# Altium footprint library PCB_ActiveDIO.PcbLib: 6 footprints
Each footprint in its own frame and in the unit in brackets; x right, y up, seen from the top. Pads: shape width x height; smd on the part's side, far side on the other; paste and mask are expansions set on the pad; w line width, h text height; cw(c..) or ccw(c..) is an arc to the next point about the centre after c.
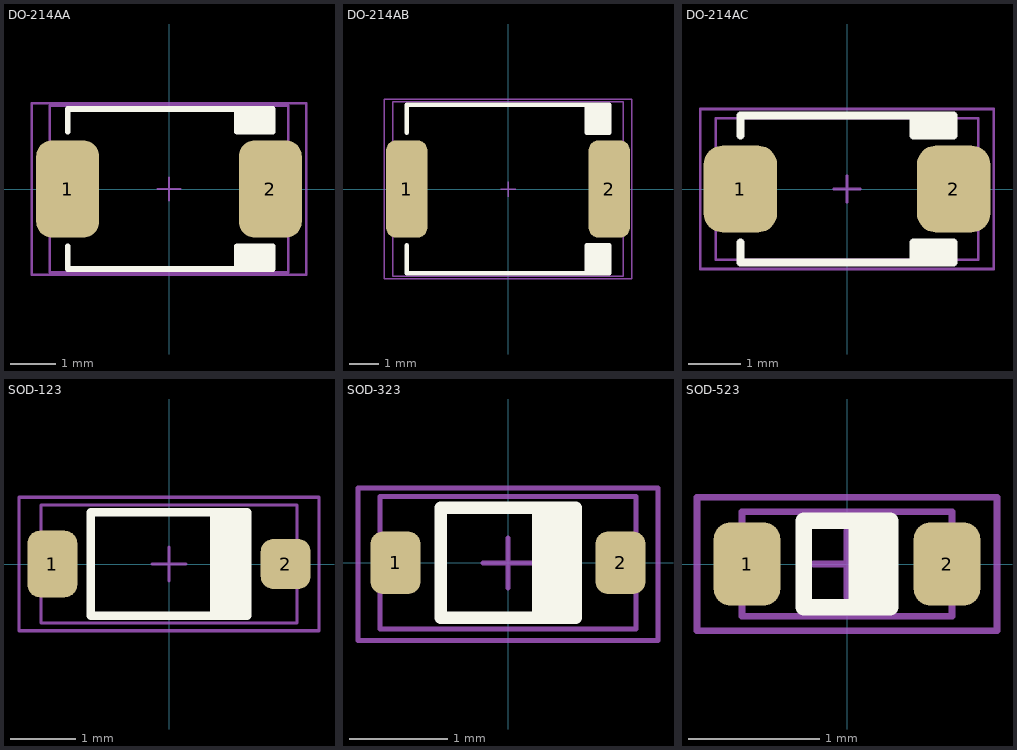
[diagram p0: the footprints below, top view; thin cyan lines are the x and y axes]

## DO-214AA [mil] "SMB"
height 104.33
pads (2):
  rrect50% 55x85 smd: 1(-88.58,0) 2(88.58,0)
Top Overlay:
  region: 59.5,50 59.5,70 90.58,70 90.58,50
  region: 59.5,-50 59.5,-70 90.58,-70 90.58,-50
  lines w5: -88.58,-50 -88.58,-70 90.58,-70 90.58,-50 59.5,-50 59.5,-70 ; -88.58,50 -88.58,70 90.58,70 90.58,50 59.5,50 59.5,70
Mechanical 13:
  lines w2: -10,0 10,0 ; 0,-10 0,10 ; -104.33,-72.84 -104.33,72.84 104.33,72.84 104.33,-72.84 -104.33,-72.84
T-Component:
  lines w2: -120,-75 120,-75 120,75 -120,75 -120,-75
  text ".Designator" at -43,-28 h100
3D body "User Library-DO-214AA_SMB.STEP": height 86.65, standoff -1.97, extent -104.33,-72.84 104.33,72.84

## DO-214AB [mil] "SMC"
height 98.43
pads (2):
  rrect50% 55x130 smd: 1(-135,0) 2(135,0)
Top Overlay:
  rectangle: 105,74.8 135,112.05
  rectangle: 105,-112.05 135,-74.8
  lines w6: -135,-75 -135,-112.05 135,-112.05 135,-74.8 105,-74.8 105,-112.05 ; -135,74.8 -135,112.05 135,112.05 135,74.8 105,74.8 105,112.05
Mechanical 13:
  lines w2: -10,0 10,0 ; 0,-10 0,10 ; -153.54,-116.14 -153.54,116.14 153.54,116.14 153.54,-116.14 -153.54,-116.14
T-Component:
  lines w2: -165,-120 165,-120 165,120 -165,120 -165,-120
  text ".Designator" at -43,-28 h100
3D body "User Library-DO-214AB-SMC.STEP": height 94.53, standoff -1.97, extent -153.54,-116.14 153.54,116.14

## DO-214AC [mil] "SMA"
pads (2):
  rrect50% 55x65 smd: 1(-80,0) 2(80,0)
Top Overlay:
  region: 50,40 50,55 80,55 80,40
  region: 50,-40 50,-55 80,-55 80,-40
  lines w6: -80,-40 -80,-55 80,-55 80,-40 50,-40 50,-55 ; -80,40 -80,55 80,55 80,40 50,40 50,55
Mechanical 13:
  lines w2: -10.01,-0.01 9.99,-0.01 ; -0.01,-10.01 -0.01,9.99 ; -98.44,-53.16 98.41,-53.16 98.41,53.14 -98.44,53.14 -98.44,-53.16
T-Component:
  lines w2: -110,-60 -110,60 110,60 110,-60 -110,-60
  text ".Designator" at -43,-28 h100
3D body "User Library-DO-214AC_SMA.STEP": height 84.69, standoff -1.97, extent -98.44,-53.16 98.41,53.14

## SOD-123 [mil]
height 45.28
pads (2):
  rrect50% 30x40 smd: 1(-70,0)
  rrect50% 30x30 smd: 2(70,0)
Top Overlay:
  region: 47,31 47,-31 27,-31 27,31
  lines w5: 27,-31 27,31 ; -47,-31 -47,31 47,31 47,-31 -47,-31
Mechanical 13:
  lines w2: -10.01,0 9.99,0 ; -0.01,-10 -0.01,10 ; -76.78,-35.43 -76.78,35.43 76.77,35.43 76.77,-35.43 -76.78,-35.43
T-Component:
  lines w2: -90,-40 -90,40 90,40 90,-40 -90,-40
  text ".Designator" at -34,-22 h80
3D body "User Library-SOD123-1.STEP": height 46.46, standoff 0, extent -76.78,-35.43 76.77,35.43

## SOD-323 [mil]
height 45.28
pads (2):
  rrect50% 20x25 smd: 1(-45,0) 2(45,0)
Top Overlay:
  region: 12,22 27,22 27,-22 12,-22
  lines w5: 12,-22 12,22 ; -27,-22 -27,22 27,22 27,-22 -27,-22
Mechanical 13:
  lines w2: -10,0 10,0 ; 0,-10 0,10 ; -51.18,-26.58 -51.18,26.58 51.18,26.58 51.18,-26.58 -51.18,-26.58
T-Component:
  lines w2: -60,-31 60,-31 60,30 -60,30 -60,-31
  text ".Designator" at -34,-22 h80
3D body "SOD323.STEP": height 43.31, standoff 0, extent -51.18,-26.58 51.18,26.58

## SOD-523 [mil]
height 45.28
pads (2):
  rrect50% 20x25 smd: 1(-30,0) 2(30,0)
Top Overlay:
  region: 3,13 13,13 13,-13 3,-13
  lines w5: 3,-13 3,13 ; -13,-13 -13,13 13,13 13,-13 -13,-13
Mechanical 13:
  lines w2: -10,0 10,0 ; 0,-10 0,10 ; -31.5,-15.7 31.5,-15.7 31.5,15.7 -31.5,15.7 -31.5,-15.7
T-Component:
  lines w2: -45,-20 -45,20 45,20 45,-20 -45,-20
  text ".Designator" at -26,-16 h60
3D body "User Library-SOD-523F.STEP": height 27.56, standoff 0, extent -31.5,-15.7 31.5,15.7